# EAGLE library part LCD-2.8INCH (library LCD-3.5INCH)
For use with coldtears electronics 2.8INCH ILI9325LCD
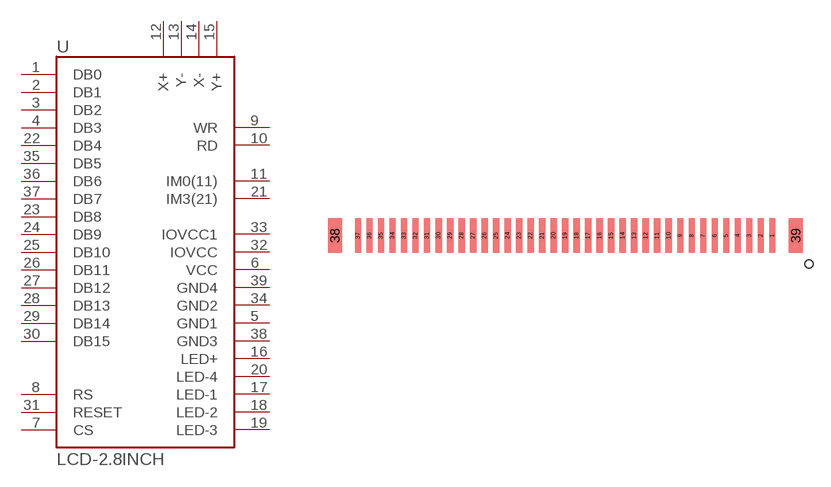
[diagram p1: symbol with the pads of LCD-2.8-37PIN-1.0_SHORT; footprint LCD-2.8-37PIN-1.0_SHORT]

Designator prefix -

## LCD-2.8INCH1MMPITCH  [LCD-2.8-37PIN-1.0_SHORT]
1  DB0
2  DB1
3  DB2
4  DB3
5  GND1
6  VCC
7  CS
8  RS
9  WR
10  RD
11  IM0(11)
12  X+
13  Y-
14  X-
15  Y+
16  LED+
17  LED-1
18  LED-2
19  LED-3
20  LED-4
21  IM3(21)
22  DB4
23  DB8
24  DB9
25  DB10
26  DB11
27  DB12
28  DB13
29  DB14
30  DB15
31  RESET
32  IOVCC
33  IOVCC1
34  GND2
35  DB5
36  DB6
37  DB7
38  GND3
39  GND4

## Footprint LCD-2.8-37PIN-1.0_SHORT (pad centres in mm)
smd 0.55 x 3: 1 -3.57,5.28; 2 -4.57,5.28; 3 -5.57,5.28; 4 -6.57,5.28; 5 -7.57,5.28; 6 -8.57,5.28; 7 -9.57,5.28; 8 -10.57,5.28; 9 -11.57,5.28; 10 -12.57,5.28; 11 -13.57,5.28; 12 -14.57,5.28; 13 -15.57,5.28; 14 -16.57,5.28; 15 -17.57,5.28; 16 -18.57,5.28; 17 -19.57,5.28; 18 -20.57,5.28; 19 -21.57,5.28; 20 -22.57,5.28; 21 -23.57,5.28; 22 -24.57,5.28; 23 -25.57,5.28; 24 -26.57,5.28; 25 -27.57,5.28; 26 -28.57,5.28; 27 -29.57,5.28; 28 -30.57,5.28; 29 -31.57,5.28; 30 -32.57,5.28; 31 -33.57,5.28; 32 -34.57,5.28; 33 -35.57,5.28; 34 -36.57,5.28; 35 -37.57,5.28; 36 -38.57,5.28; 37 -39.57,5.28
smd 1.2 x 3: 38 -41.57,5.28; 39 -1.53,5.28